# Altium schematic symbol library AT28BV64B-25TC.Schlib: 1 symbol
Pins are listed as number, name and electrical type; pins without a type are passive.

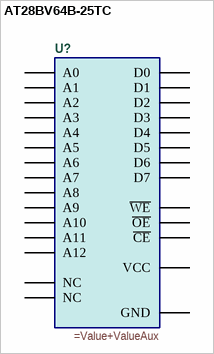
[diagram p0: symbol AT28BV64B-25TC]

## AT28BV64B-25TC
designator U?
=Description
pins: 1 ~{OE}, 2 A11, 3 A9, 4 A8, 5 NC, 6 ~{WE}, 7 VCC, 8 NC, 9 A12, 10 A7, 11 A6, 12 A5, 13 A4, 14 A3, 15 A2, 16 A1, 17 A0, 18 D0, 19 D1, 20 D2, 21 GND, 22 D3, 23 D4, 24 D5, 25 D6, 26 D7, 27 ~{CE}, 28 A10